# Altium footprint library KPT1001S.PcbLib: 36 footprints (part 3 of 3)
Each footprint in its own frame and in the unit in brackets; x right, y up, seen from the top. Pads: shape width x height; smd on the part's side, far side on the other; paste and mask are expansions set on the pad; w line width, h text height; cw(c..) or ccw(c..) is an arc to the next point about the centre after c.
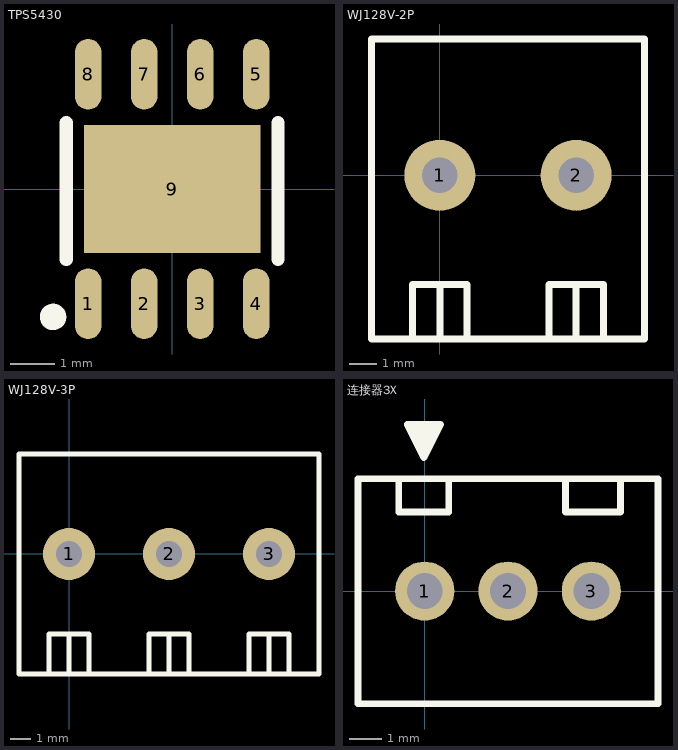
[diagram p2: the footprints below, top view; thin cyan lines are the x and y axes]

## TPS5430 [mm]
pads (9):
  oval 0.6x1.6 smd: 1(-1.905,-2.6) 2(-0.635,-2.6) 3(0.635,-2.6) 4(1.905,-2.6) 5(1.905,2.6) 6(0.635,2.6) 7(-0.635,2.6) 8(-1.905,2.6)
  rect 4x2.9 smd: 9(0,0)
Top Overlay:
  circle w0.3: c-2.7,-2.9 r0.15
  lines w0.3: -2.4,-1.6 -2.4,1.5 ; 2.4,-1.6 2.4,1.5

## WJ128V-2P [mm]
pads (2):
  round 2.6 hole 1.3: 1(0,0) 2(5,0)
Top Overlay:
  lines w0.254: -1,-6 -1,-4 0,-4 ; 0,-6 0,-4 ; 1,-6 1,-4 0,-4 ; 4,-6 4,-4 5,-4 ; 5,-6 5,-4 ; 6,-6 6,-4 5,-4 ; -2.5,-6 -2.5,5 7.5,5 7.5,-6 -2.5,-6

## WJ128V-3P [mm]
pads (3):
  round 2.6 hole 1.3: 1(0,0) 2(5,0) 3(10,0)
Top Overlay:
  lines w0.254: -1,-6 -1,-4 0,-4 ; 0,-6 0,-4 ; 1,-6 1,-4 0,-4 ; 4,-6 4,-4 5,-4 ; 5,-6 5,-4 ; 6,-6 6,-4 5,-4 ; 9,-6 9,-4 10,-4 ; 10,-6 10,-4 ; 11,-6 11,-4 10,-4 ; -2.5,-6 -2.5,5 12.5,5 12.5,-6 -2.5,-6

## 连接器3X [mil]
pads (3):
  round 71 hole 43: 1(0,0) 2(100,0) 3(200,0)
Top Overlay:
  lines w8: -31,135 -31,95 29,95 29,135 ; -12,196 -12,191 ; -8,200 -21,200 ; -6,174 -6,198 -12,187 ; -5,173 8,199 8,187 8,189 19,200 ; 5,176 5,200 ; 169,135 169,95 235,95 235,135 ; -21,200 -12,191 ; -21,200 -1,160 ; -21,200 19,200 ; -12,187 -12,191 ; -12,187 -10,182 -1,198 -1,160 ; -1,160 19,200 ; -80,-135 280,-135 280,135 200,135 -80,135 -80,-135